# EAGLE library part CLP6C-FKB (library CREE_opto)
RGB LED SMD 6050
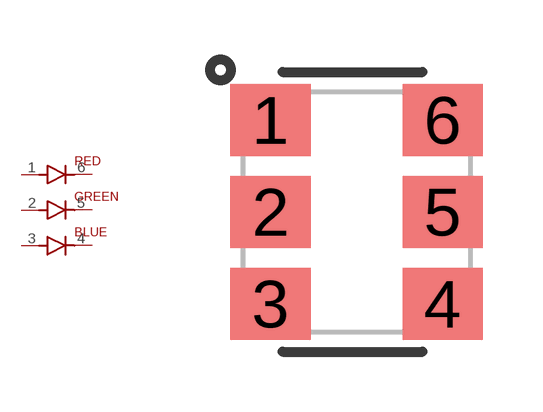
[diagram p0: symbol with the pads of RGB_6PINS_6050; footprint RGB_6PINS_6050]

Designator prefix -

## CLP6C-FKB  [RGB_6PINS_6050]
1  RA
2  GA
3  BA
4  BC
5  GC
6  RC

## Footprint RGB_6PINS_6050 (pad centres in mm)
smd 2 x 1.8: 1 0.7,5.3; 2 0.7,3; 3 0.7,0.7; 4 5,0.7; 5 5,3; 6 5,5.3